# Altium footprint library AON6407.PcbLib: 1 footprints
Each footprint in its own frame and in the unit in brackets; x right, y up, seen from the top. Pads: shape width x height; smd on the part's side, far side on the other; paste and mask are expansions set on the pad; w line width, h text height; cw(c..) or ccw(c..) is an arc to the next point about the centre after c.
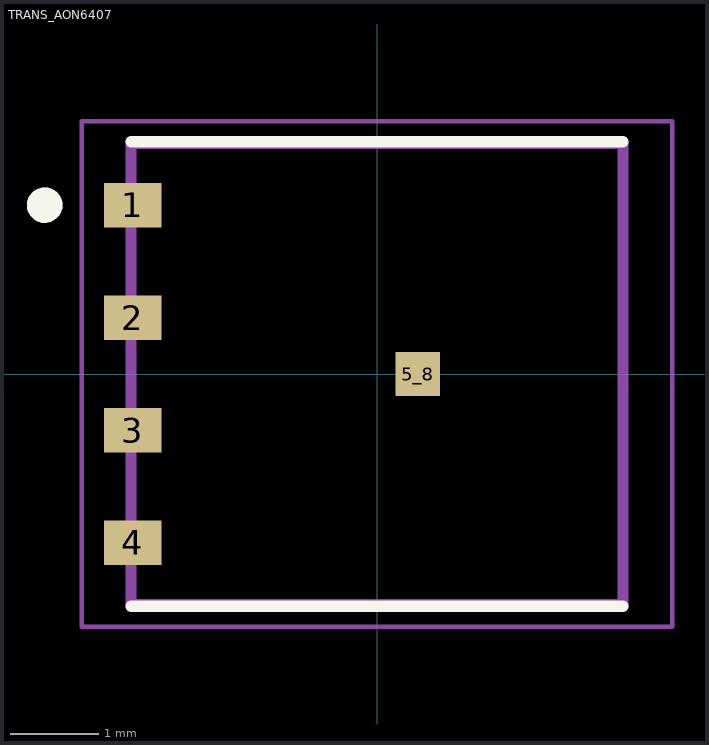
[diagram p0: the footprint, top view; thin cyan lines are the x and y axes]

## TRANS_AON6407 [mm]
pads (5):
  rect 0.65x0.5 smd: 1(-2.755,1.905) 2(-2.755,0.635) 3(-2.755,-0.635) 4(-2.755,-1.905)
  rect 0.5x0.5 smd paste-1 mask+0: 5_8(0.46,0)
Top Overlay:
  circle w0.2: c-3.75,1.905 r0.1
  lines w0.127: -2.775,-2.62 2.775,-2.62 ; -2.775,2.62 2.775,2.62
Mechanical 13:
  circle w0.2: c-3.75,1.905 r0.1
  lines w0.127: -2.775,-2.6 2.775,-2.6 2.775,2.6 -2.775,2.6 -2.775,-2.6
Mechanical 15:
  lines w0.05: -3.33,-2.85 -3.33,2.85 3.33,2.85 3.33,-2.85 -3.33,-2.85
3D body "step_temp.STEP": height 0.95, standoff -0.05, extent -2.75,-3.025 2.75,3.025